# EAGLE library part UCC27211A-Q1 (library IC)
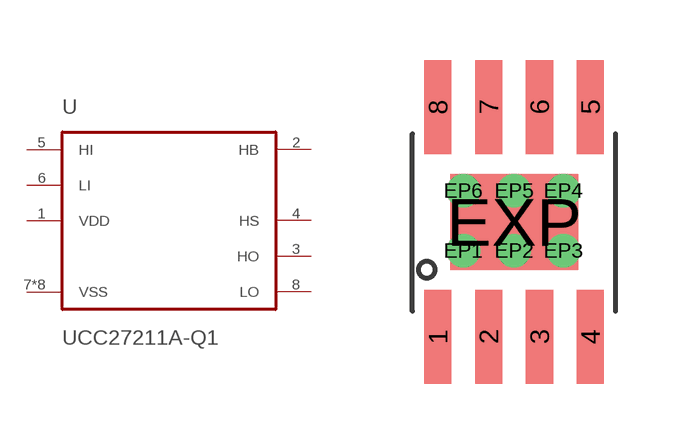
[diagram p6: symbol with the pads of SOIC-8-EP; footprint SOIC-8-EP]

Designator prefix U

## UCC27211A-Q1  [SOIC-8-EP]
1  VDD  pwr
2  HB  out
3  HO  out
4  HS
5  HI  in
6  LI  in
7  VSS  pwr
8  LO  out
EP1  VSS  pwr
EP2  VSS  pwr
EP3  VSS  pwr
EP4  VSS  pwr
EP5  VSS  pwr
EP6  VSS  pwr
EXP  VSS  pwr

## Footprint SOIC-8-EP (pad centres in mm)
smd 0.68 x 2.35: 1 0,0; 2 1.27,0; 3 2.54,0; 4 3.81,0; 5 3.81,5.75; 6 2.54,5.75; 7 1.27,5.75; 8 0,5.75
drill 0.33 pad 0.61: EP1 0.635,2.15; EP2 1.905,2.15; EP3 3.135,2.15; EP4 3.135,3.65; EP5 1.905,3.65; EP6 0.635,3.65
smd 3.2 x 2.4: EXP 1.905,2.875